# EAGLE library part AT45DB161E-SHD2B-T (library clackboard_lib)
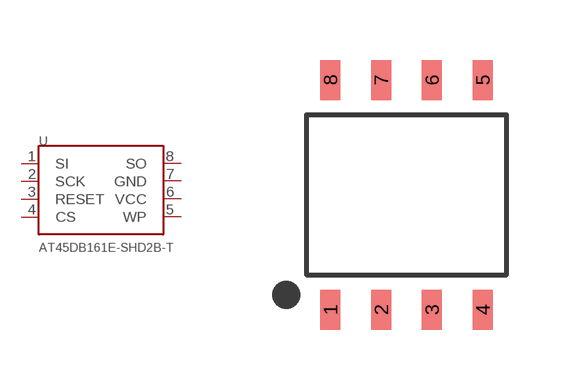
[diagram p10: symbol with the pads of AT45DB161E-SHD2B-T; footprint AT45DB161E-SHD2B-T]

Designator prefix U

## AT45DB161E-SHD2B-T  [AT45DB161E-SHD2B-T]
1  SI
2  SCK
3  RESET
4  CS
5  WP
6  VCC
7  GND
8  SO

## Footprint AT45DB161E-SHD2B-T (pad centres in mm)
smd 0.5 x 1: 1 -1.905,-2.875; 2 -0.635,-2.875; 3 0.635,-2.875; 4 1.905,-2.875; 5 1.905,2.875; 6 0.635,2.875; 7 -0.635,2.875; 8 -1.905,2.875